# Altium schematic symbol library CIRCUITBREAKER.Schlib: 1 symbol
Pins are listed as number, name and electrical type; pins without a type are passive.

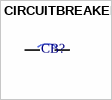
[diagram p0: symbol CIRCUITBREAKER]

## CIRCUITBREAKER
designator CB?  (value not drawn)
Circuit Breaker
pins: 1, 2
1 alternate drawing of the same symbol